# Altium footprint library Capacitor Non-Polar Axial.PcbLib: 12 footprints
Each footprint in its own frame and in the unit in brackets; x right, y up, seen from the top. Pads: shape width x height; smd on the part's side, far side on the other; paste and mask are expansions set on the pad; w line width, h text height; cw(c..) or ccw(c..) is an arc to the next point about the centre after c.
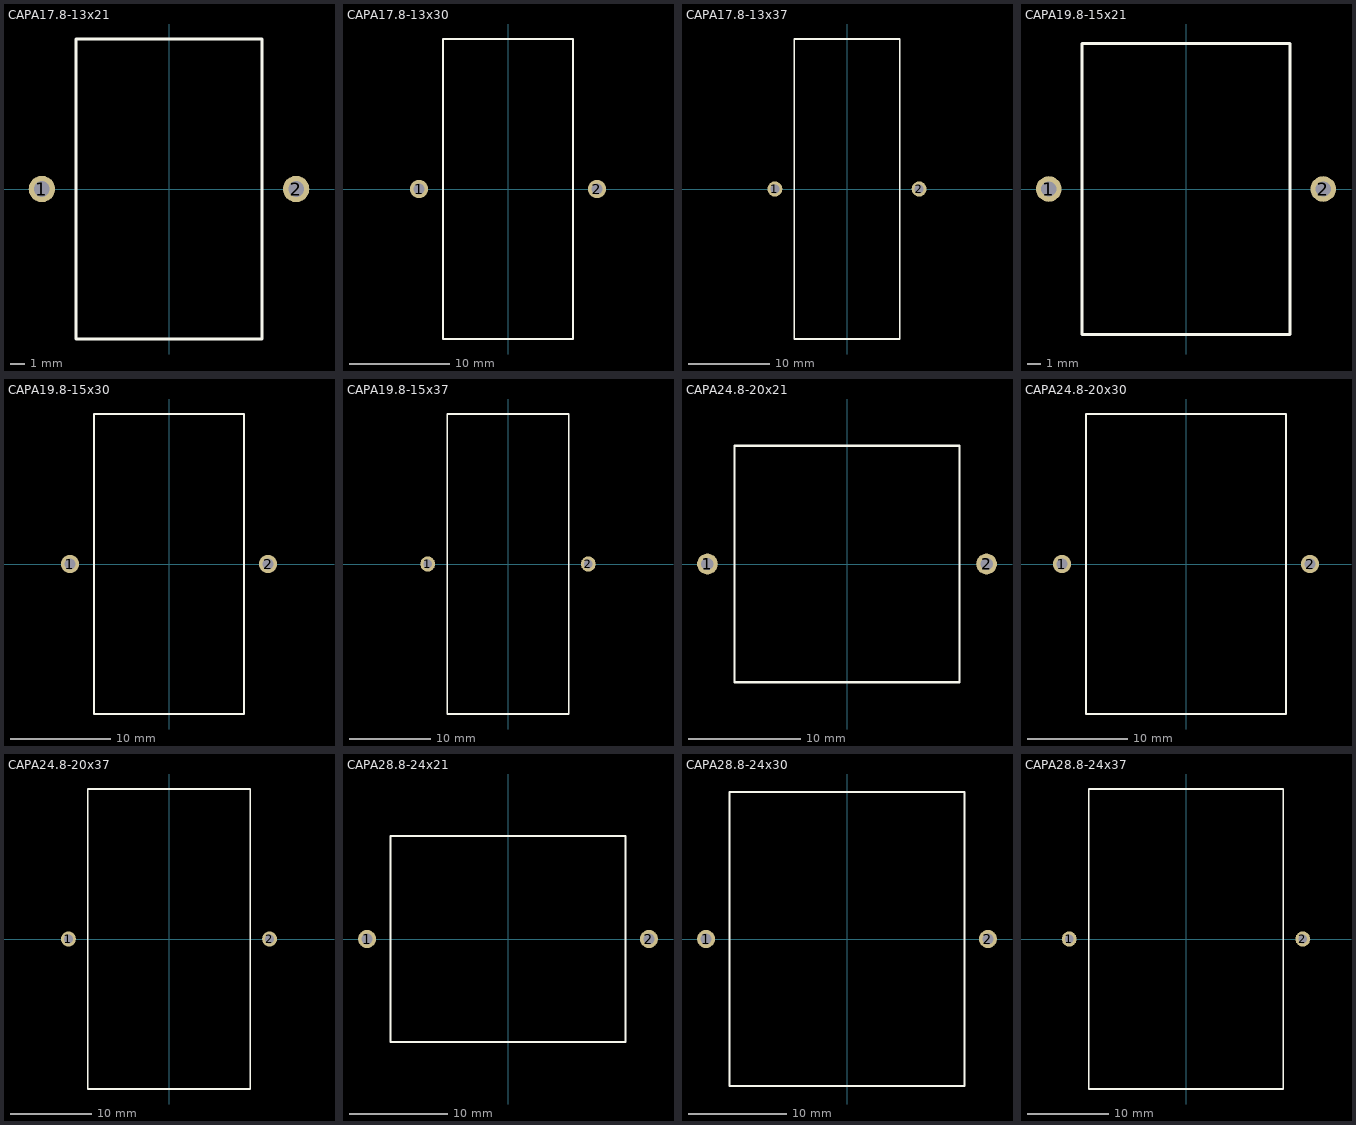
[diagram p0: the footprints below, top view; thin cyan lines are the x and y axes]

## CAPA17.8-13x21 [mm] "Capacitor, Ceramic, Thru-Hole, Axial Leads; Body 13 x 21 mm (LxDia. max) Pin Spacing 17.8 mm (typ)"
height 21
pads (2):
  round 1.85 hole 1.1: 1(-8.9,0) 2(8.9,0)
Top Overlay:
  lines w0.2: -6.5,-10.5 6.5,-10.5 6.5,10.5 -6.5,10.5 -6.5,-10.5

## CAPA17.8-13x30 [mm] "Capacitor, Ceramic, Thru-Hole, Axial Leads; Body 13 x 30 mm (LxDia. max) Pin Spacing 17.8 mm (typ)"
height 30
pads (2):
  round 1.85 hole 1.1: 1(-8.9,0) 2(8.9,0)
Top Overlay:
  lines w0.2: -6.5,-15 6.5,-15 6.5,15 -6.5,15 -6.5,-15

## CAPA17.8-13x37 [mm] "Capacitor, Ceramic, Thru-Hole, Axial Leads; Body 13 x 37 mm (LxDia. max) Pin Spacing 17.8 mm (typ)"
height 37
pads (2):
  round 1.85 hole 1.1: 1(-8.9,0) 2(8.9,0)
Top Overlay:
  lines w0.2: -6.5,-18.5 -6.5,18.5 6.5,18.5 6.5,-18.5 -6.5,-18.5

## CAPA19.8-15x21 [mm] "Capacitor, Ceramic, Thru-Hole, Axial Leads; Body 15 x 21 mm (LxDia. max) Pin Spacing 19.8 mm (typ)"
height 21
pads (2):
  round 1.85 hole 1.1: 1(-9.9,0) 2(9.9,0)
Top Overlay:
  lines w0.2: -7.5,-10.5 -7.5,10.5 7.5,10.5 7.5,-10.5 -7.5,-10.5

## CAPA19.8-15x30 [mm] "Capacitor, Ceramic, Thru-Hole, Axial Leads; Body 15 x 30 mm (LxDia. max) Pin Spacing 19.8 mm (typ)"
height 30
pads (2):
  round 1.85 hole 1.1: 1(-9.9,0) 2(9.9,0)
Top Overlay:
  lines w0.2: -7.5,-15 7.5,-15 7.5,15 -7.5,15 -7.5,-15

## CAPA19.8-15x37 [mm] "Capacitor, Ceramic, Thru-Hole, Axial Leads; Body 15 x 37 mm (LxDia. max) Pin Spacing 19.8 mm (typ)"
height 37
pads (2):
  round 1.85 hole 1.1: 1(-9.9,0) 2(9.9,0)
Top Overlay:
  lines w0.2: -7.5,-18.5 -7.5,18.5 7.5,18.5 7.5,-18.5 -7.5,-18.5

## CAPA24.8-20x21 [mm] "Capacitor, Ceramic, Thru-Hole, Axial Leads; Body 20 x 21 mm (LxDia. max) Pin Spacing 24.8 mm (typ)"
height 21
pads (2):
  round 1.85 hole 1.1: 1(-12.4,0) 2(12.4,0)
Top Overlay:
  lines w0.2: -10,-10.5 10,-10.5 10,10.5 -10,10.5 -10,-10.5

## CAPA24.8-20x30 [mm] "Capacitor, Ceramic, Thru-Hole, Axial Leads; Body 20 x 30 mm (LxDia. max) Pin Spacing 24.8 mm (typ)"
height 30
pads (2):
  round 1.85 hole 1.1: 1(-12.4,0) 2(12.4,0)
Top Overlay:
  lines w0.2: -10,-15 10,-15 10,15 -10,15 -10,-15

## CAPA24.8-20x37 [mm] "Capacitor, Ceramic, Thru-Hole, Axial Leads; Body 20 x 37 mm (LxDia. max) Pin Spacing 24.8 mm (typ)"
height 37
pads (2):
  round 1.85 hole 1.1: 1(-12.4,0) 2(12.4,0)
Top Overlay:
  lines w0.2: -10,-18.5 10,-18.5 10,18.5 -10,18.5 -10,-18.5

## CAPA28.8-24x21 [mm] "Capacitor, Ceramic, Thru-Hole, Axial Leads; Body 24 x 21 mm (LxDia. max) Pin Spacing 28.8 mm (typ)"
height 21
pads (2):
  round 1.85 hole 1.1: 1(-14.4,0) 2(14.4,0)
Top Overlay:
  lines w0.2: -12,-10.5 12,-10.5 12,10.5 -12,10.5 -12,-10.5

## CAPA28.8-24x30 [mm] "Capacitor, Ceramic, Thru-Hole, Axial Leads; Body 24 x 30 mm (LxDia. max) Pin Spacing 28.8 mm (typ)"
height 30
pads (2):
  round 1.85 hole 1.1: 1(-14.4,0) 2(14.4,0)
Top Overlay:
  lines w0.2: -12,-15 12,-15 12,15 -12,15 -12,-15

## CAPA28.8-24x37 [mm] "Capacitor, Ceramic, Thru-Hole, Axial Leads; Body 24 x 37 mm (LxDia. max) Pin Spacing 28.8 mm (typ)"
height 37
pads (2):
  round 1.85 hole 1.1: 1(-14.4,0) 2(14.4,0)
Top Overlay:
  lines w0.2: -12,-18.5 12,-18.5 12,18.5 -12,18.5 -12,-18.5